# Altium footprint library Connector.PcbLib: 170 footprints (part 1 of 11)
Each footprint in its own frame and in the unit in brackets; x right, y up, seen from the top. Pads: shape width x height; smd on the part's side, far side on the other; paste and mask are expansions set on the pad; w line width, h text height; cw(c..) or ccw(c..) is an arc to the next point about the centre after c.
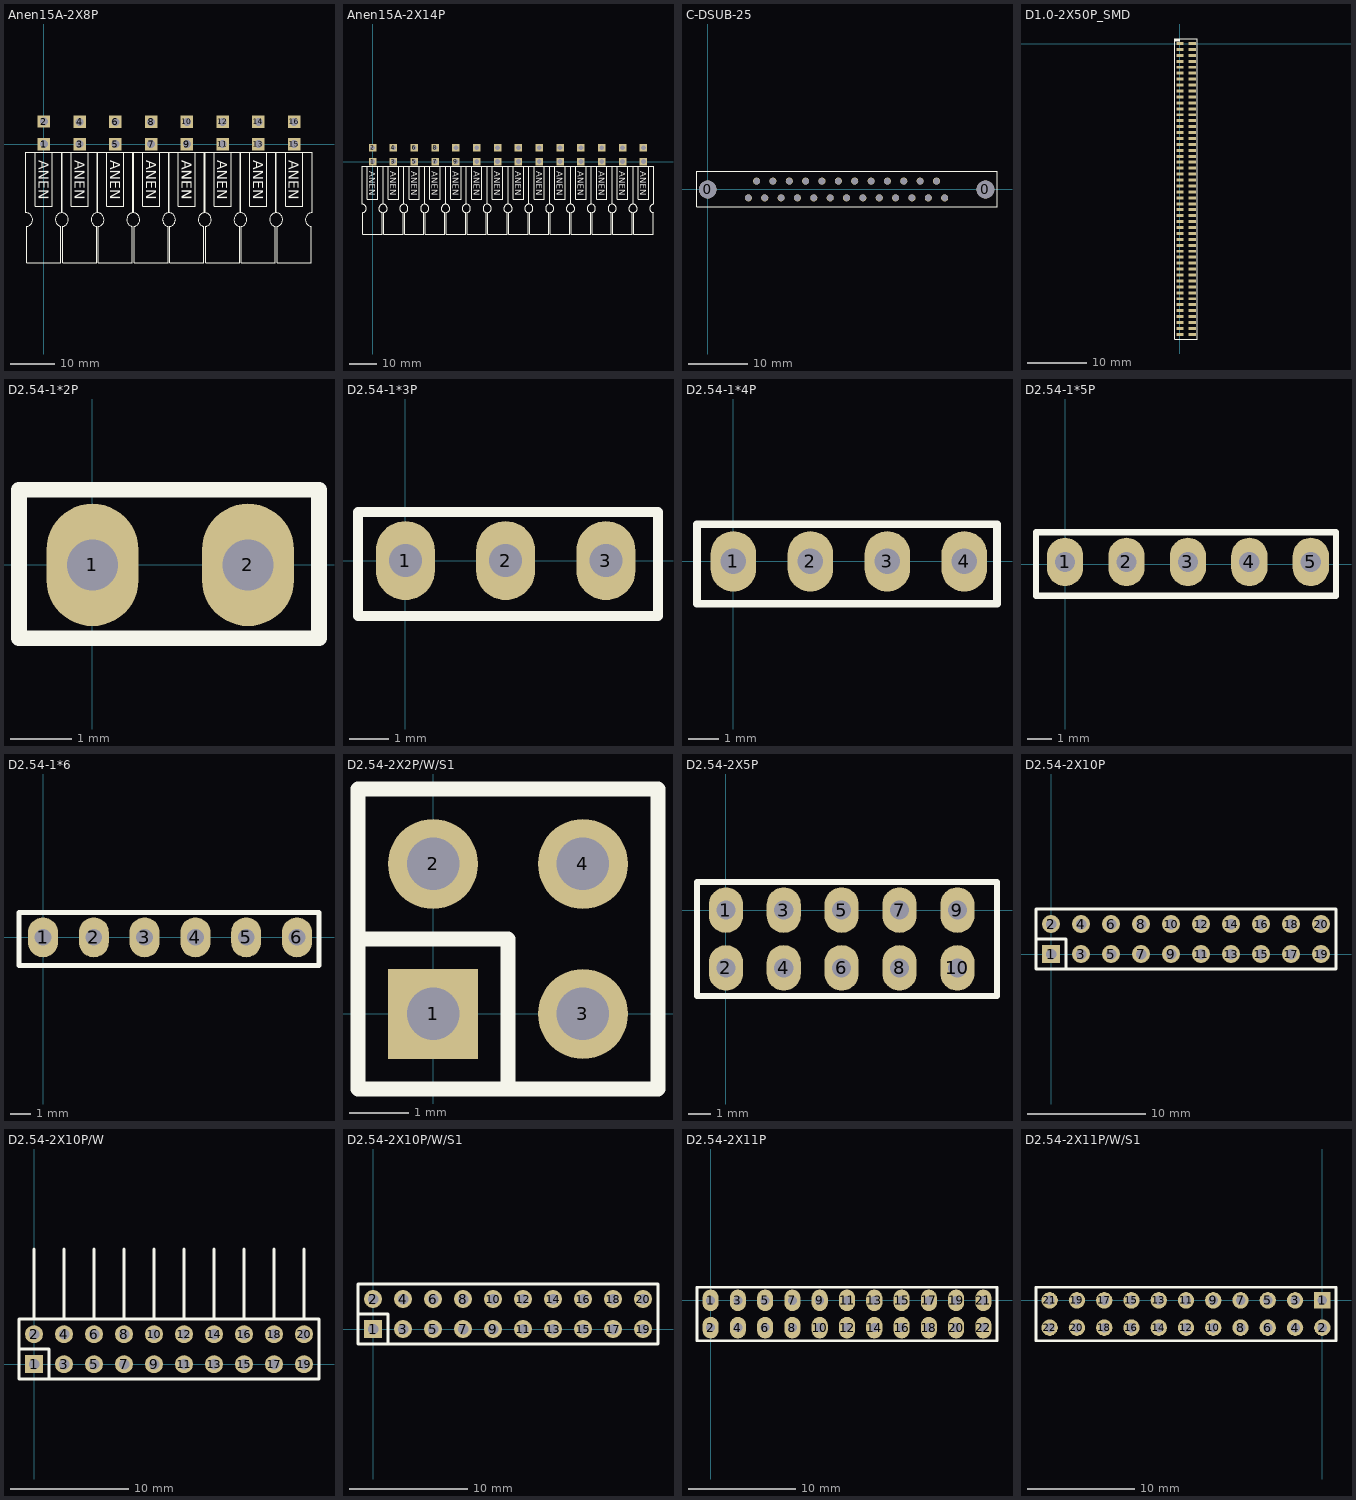
[diagram p0: the footprints below, top view; thin cyan lines are the x and y axes]

## Anen15A-2X8P [mil] "单极电源连接器"
pads (16):
  rect 110x110 hole 70 paste+0: 1(0,0) 2(0,200) 3(314.96,0) 4(314.96,196.85) 5(629.92,0) 6(629.92,196.85) 7(944.88,0) 8(944.88,196.85) 9(1259.84,0) 10(1259.84,196.85) 11(1574.8,0) 12(1574.8,196.85) 13(1889.76,0) 14(1889.76,196.85) 15(2204.72,0) 16(2204.72,196.85)
Top Overlay:
  lines w10: -150,-724.09 -150,-1045 149.58,-1045 149.58,-724.09 cw(c160,-665) 160,-605 160,-70 -160,-70 -160,-605 cw(c-160,-665) -149.58,-724.09 ; -75,-70 -75,-545 75,-545 75,-70 ; 164.96,-724.09 164.96,-1045 464.54,-1045 464.54,-724.09 cw(c474.96,-665) 474.96,-605 474.96,-70 154.96,-70 154.96,-605 cw(c154.96,-665) 165.38,-724.09 ; 239.96,-70 239.96,-545 389.96,-545 389.96,-70 ; 479.92,-724.09 479.92,-1045 779.5,-1045 779.5,-724.09 cw(c789.92,-665) 789.92,-605 789.92,-70 469.92,-70 469.92,-605 cw(c469.92,-665) 480.34,-724.09 ; 554.92,-70 554.92,-545 704.92,-545 704.92,-70 ; 794.88,-724.09 794.88,-1045 1094.46,-1045 1094.46,-724.09 cw(c1104.88,-665) 1104.88,-605 1104.88,-70 784.88,-70 784.88,-605 cw(c784.88,-665) 795.3,-724.09 ; 869.88,-70 869.88,-545 1019.88,-545 1019.88,-70 ; 1424.8,-724.09 1424.8,-1045 1724.38,-1045 1724.38,-724.09 cw(c1734.8,-665) 1734.8,-605 1734.8,-70 1414.8,-70 1414.8,-605 cw(c1414.8,-665) 1425.22,-724.09 ; 1499.8,-70 1499.8,-545 1649.8,-545 1649.8,-70 ; 1739.76,-724.09 1739.76,-1045 2039.34,-1045 2039.34,-724.09 cw(c2049.76,-665) 2049.76,-605 2049.76,-70 1729.76,-70 1729.76,-605 cw(c1729.76,-665) 1740.18,-724.09 ; 1814.76,-70 1814.76,-545 1964.76,-545 1964.76,-70 ; 2054.72,-724.09 2054.72,-1045 2354.31,-1045 2354.31,-724.09 cw(c2364.72,-665) 2364.72,-605 2364.72,-70 2044.72,-70 2044.72,-605 cw(c2044.72,-665) 2055.14,-724.09 ; 2129.72,-70 2129.72,-545 2279.72,-545 2279.72,-70 ; 1099.84,-605 cw(c1099.84,-665) 1110.26,-724.09 ccw(c1099.84,-665) 1099.84,-605 ; 1099.84,-605 1099.84,-70 ; 1099.84,-605 1099.84,-70 ; 1099.84,-70 1419.84,-70 ; 1099.84,-70 1419.84,-70 ; 1109.84,-1045 1409.42,-1045 ; 1109.84,-1045 1109.84,-724.09 1109.84,-1045 ; 1109.84,-1045 1409.42,-1045 ; 1184.84,-545 1334.84,-545 ; 1184.84,-545 1184.84,-70 1184.84,-545 ; 1184.84,-545 1334.84,-545 ; 1334.84,-545 1334.84,-70 1334.84,-545 ; 1409.42,-1045 1409.42,-724.09 ; 1409.42,-1045 1409.42,-724.09 ; 1409.42,-724.09 cw(c1419.84,-665) 1419.84,-605 ; 1409.42,-724.09 cw(c1419.84,-665) 1419.84,-605 ; 1419.84,-605 1419.84,-70 ; 1419.84,-605 1419.84,-70
  text "ANEN" at -45,-140 h90
  text "ANEN" at 269.96,-140 h90
  text "ANEN" at 584.92,-140 h90
  text "ANEN" at 899.88,-140 h90
  text "ANEN" at 1214.84,-140 h90
  text "ANEN" at 1214.84,-140 h90
  text "ANEN" at 1529.8,-140 h90
  text "ANEN" at 1844.76,-140 h90
  text "ANEN" at 2159.72,-140 h90
3D body: height 669.29, standoff 0, extent -160,-1040 155,-70
3D body: height 669.29, standoff 0, extent 154.96,-1040 469.96,-70
3D body: height 669.29, standoff 0, extent 469.92,-1040 784.92,-70
3D body: height 669.29, standoff 0, extent 784.88,-1040 1099.88,-70
3D body: height 669.29, standoff 0, extent 1099.84,-1040 1414.84,-70
3D body: height 669.29, standoff 0, extent 1414.8,-1040 1729.8,-70
3D body: height 669.29, standoff 0, extent 1729.76,-1040 2044.76,-70
3D body: height 669.29, standoff 0, extent 2044.72,-1040 2359.72,-70

## Anen15A-2X14P [mil] "单极电源连接器"
pads (28):
  rect 110x110 hole 70: 1(0,0) 2(0,200) 3(300,0) 4(300,200) 5(600,0) 6(600,200) 7(900,0) 8(900,200) 9(1200,0) 10(1200,200) 11(1500,0) 12(1500,200) 13(1800,0) 14(1800,200) 15(2100,0) 16(2100,200) 17(2400,0) 18(2400,200) 19(2700,0) 20(2700,200) 21(3000,0) 22(3000,200) 23(3300,0) 24(3300,200) 25(3600,0) 26(3600,200) 27(3900,0) 28(3900,200)
Top Overlay:
  drawing of 180 lines, arcs and shapes, not listed
  text "ANEN" at -45,-140 h90
  text "ANEN" at 255,-140 h90
  text "ANEN" at 555,-140 h90
  text "ANEN" at 855,-140 h90
  text "ANEN" at 2055,-140 h90
  text "ANEN" at 1755,-140 h90
  text "ANEN" at 1455,-140 h90
  text "ANEN" at 1155,-140 h90
  text "ANEN" at 3255,-140 h90
  text "ANEN" at 2955,-140 h90
  text "ANEN" at 2655,-140 h90
  text "ANEN" at 2355,-140 h90
  text "ANEN" at 3855,-140 h90
  text "ANEN" at 3555,-140 h90
3D body: height 669.29, standoff 0, extent 3740,-1040 4055,-70
3D body: height 669.29, standoff 0, extent 3440,-1040 3755,-70
3D body: height 669.29, standoff 0, extent 3140,-1040 3455,-70
3D body: height 669.29, standoff 0, extent 2840,-1040 3155,-70
3D body: height 669.29, standoff 0, extent 2540,-1040 2855,-70
3D body: height 669.29, standoff 0, extent 2240,-1040 2555,-70
3D body: height 669.29, standoff 0, extent 1940,-1040 2255,-70
3D body: height 669.29, standoff 0, extent 1640,-1040 1955,-70
3D body: height 669.29, standoff 0, extent 1340,-1040 1655,-70
3D body: height 669.29, standoff 0, extent 1040,-1040 1355,-70
3D body: height 669.29, standoff 0, extent 740,-1040 1055,-70
3D body: height 669.29, standoff 0, extent 440,-1040 755,-70
3D body: height 669.29, standoff 0, extent 140,-1040 455,-70
3D body: height 669.29, standoff 0, extent -160,-1040 155,-70

## C-DSUB-25 [mm] "C-DSUB-25"
pads (27):
  round 3 hole 3: 0(0,0) 0(47.04,0)
  round 1.2 hole 1.1: 1(6.9,-1.42) 2(9.67,-1.42) 3(12.44,-1.42) 4(15.21,-1.42) 5(17.98,-1.42) 6(20.75,-1.42) 7(23.52,-1.42) 8(26.29,-1.42) 9(29.06,-1.42) 10(31.83,-1.42) 11(34.6,-1.42) 12(37.37,-1.42) 13(40.14,-1.42) 14(8.285,1.42) 15(11.055,1.42) 16(13.825,1.42) 17(16.595,1.42) 18(19.365,1.42) 19(22.135,1.42) 20(24.905,1.42) 21(27.675,1.42) 22(30.445,1.42) 23(33.215,1.42) 24(35.985,1.42) 25(38.755,1.42)
Top Overlay:
  lines w0.2: -1.8,-2.92 49,-2.92 49,3.08 -1.8,3.08 -1.8,-2.92

## D1.0-2X50P_SMD [mm]
pads (100):
  rect 1.25x0.5 smd: 1(0,0) 2(2.05,0) 3(0,-1) 4(2.05,-1) 5(0,-2) 6(2.05,-2) 7(0,-3) 8(2.05,-3) 9(0,-4) 10(2.05,-4) 11(0,-5) 12(2.05,-5) 13(0,-6) 14(2.05,-6) 15(0,-7) 16(2.05,-7) 17(0,-8) 18(2.05,-8) 19(0,-9) 20(2.05,-9) 21(0,-10) 22(2.05,-10) 23(0,-11) 24(2.05,-11) 25(0,-12) 26(2.05,-12) 27(0,-13) 28(2.05,-13) 29(0,-14) 30(2.05,-14) 31(0,-15) 32(2.05,-15) 33(0,-16) 34(2.05,-16) 35(0,-17) 36(2.05,-17) 37(0,-18) 38(2.05,-18) 39(0,-19) 40(2.05,-19) 41(0,-20) 42(2.05,-20) 43(0,-21) 44(2.05,-21) 45(0,-22) 46(2.05,-22) 47(0,-23) 48(2.05,-23) 49(0,-24) 50(2.05,-24) 51(0,-25) 52(2.05,-25) 53(0,-26) 54(2.05,-26) 55(0,-27) 56(2.05,-27) 57(0,-28) 58(2.05,-28) 59(0,-29) 60(2.05,-29) 61(0,-30) 62(2.05,-30) 63(0,-31) 64(2.05,-31) 65(0,-32) 66(2.05,-32) 67(0,-33) 68(2.05,-33) 69(0,-34) 70(2.05,-34) 71(0,-35) 72(2.05,-35) 73(0,-36) 74(2.05,-36) 75(0,-37) 76(2.05,-37) 77(0,-38) 78(2.05,-38) 79(0,-39) 80(2.05,-39) 81(0,-40) 82(2.05,-40) 83(0,-41) 84(2.05,-41) 85(0,-42) 86(2.05,-42) 87(0,-43) 88(2.05,-43) 89(0,-44) 90(2.05,-44) 91(0,-45) 92(2.05,-45) 93(0,-46) 94(2.05,-46) 95(0,-47) 96(2.05,-47) 97(0,-48) 98(2.05,-48) 99(0,-49) 100(2.05,-49)
Top Overlay:
  rectangle: -0.889,0.381 0,0.762
  lines w0.203: -0.889,-49.784 -0.889,0.762 2.921,0.762 2.921,-49.784 -0.889,-49.784

## D2.54-1*2P [mm]
pads (2):
  oval 1.5x2 hole 0.838: 1(0,0) 2(2.54,0)
Top Overlay:
  lines w0.254: -1.2,-1.2 -1.2,1.23 3.7,1.23 3.7,0.573 3.7,-0.743 3.7,-1.2 -1.2,-1.2
3D body: height 2.54, standoff 0, extent -1.1,-1.3 3.6,1.24
3D body: height 10, standoff -4, extent 2.142,-0.399 2.939,0.399
3D body: height 10, standoff -4, extent -0.398,-0.399 0.399,0.399

## D2.54-1*3P [mm]
pads (3):
  oval 1.5x2 hole 0.838: 1(0,0) 2(2.54,0) 3(5.08,0)
Top Overlay:
  lines w0.254: -1.2,-1.4 -1.2,1.23 6.4,1.23 6.4,-1.4 -1.2,-1.4
3D body: height 2.54, standoff 0, extent -1.1,-1.376 6.3,1.23
3D body: height 10, standoff -4, extent 4.682,-0.399 5.479,0.399
3D body: height 10, standoff -4, extent 2.142,-0.399 2.939,0.399
3D body: height 10, standoff -4, extent -0.398,-0.399 0.399,0.399

## D2.54-1*4P [mm] "Bluetooth"
pads (4):
  oval 1.5x2 hole 0.838: 1(0,0) 2(2.54,0) 3(5.08,0) 4(7.62,0)
Top Overlay:
  lines w0.254: -1.2,-1.4 8.7,-1.4 8.7,1.23 -1.2,1.23 -1.2,-1.4
3D body: height 10, standoff -4, extent -0.398,-0.399 0.399,0.399
3D body: height 10, standoff -4, extent 2.142,-0.399 2.939,0.399
3D body: height 10, standoff -4, extent 4.682,-0.399 5.479,0.399
3D body: height 10, standoff -4, extent 7.222,-0.399 8.019,0.399
3D body: height 2.54, standoff 0, extent -1.1,-1.4 8.7,1.23

## D2.54-1*5P [mm] "D2.54-1*5P"
pads (5):
  oval 1.5x2 hole 0.838: 1(0,0.1) 2(2.54,0.1) 3(5.08,0.1) 4(7.62,0.1) 5(10.16,0.1)
Top Overlay:
  lines w0.254: -1.2,-1.3 11.2,-1.3 11.2,1.33 -1.2,1.33 -1.2,-1.3
3D body: height 10, standoff -4, extent -0.398,-0.299 0.399,0.499
3D body: height 10, standoff -4, extent 2.142,-0.299 2.939,0.499
3D body: height 10, standoff -4, extent 4.682,-0.299 5.479,0.499
3D body: height 10, standoff -4, extent 7.222,-0.299 8.019,0.499
3D body: height 2.54, standoff 0, extent -1.1,-1.326 11.2,1.33
3D body: height 10, standoff -4, extent 7.222,-0.299 8.019,0.499
3D body: height 10, standoff -4, extent 9.762,-0.299 10.559,0.499

## D2.54-1*6 [mm]
pads (6):
  oval 1.5x2 hole 0.838: 1(0,0) 2(2.54,0) 3(5.08,0) 4(7.62,0) 5(10.16,0) 6(12.7,0)
Top Overlay:
  lines w0.254: -1.2,-1.4 13.8,-1.4 13.8,1.23 -1.2,1.23 -1.2,-1.4
3D body: height 10, standoff -4, extent -0.398,-0.399 0.399,0.399
3D body: height 10, standoff -4, extent 2.142,-0.399 2.939,0.399
3D body: height 10, standoff -4, extent 4.682,-0.399 5.479,0.399
3D body: height 10, standoff -4, extent 7.222,-0.399 8.019,0.399
3D body: height 2.54, standoff 0, extent -1.1,-1.452 13.8,1.23
3D body: height 10, standoff -4, extent 7.222,-0.399 8.019,0.399
3D body: height 10, standoff -4, extent 9.762,-0.399 10.559,0.399
3D body: height 10, standoff -4, extent 9.762,-0.399 10.559,0.399
3D body: height 10, standoff -4, extent 12.302,-0.399 13.099,0.399

## D2.54-2X2P/W/S1 [mil]
pads (4):
  rect 60x60 hole 35: 1(0,0)
  round 60 hole 35: 2(0,100) 3(100,0) 4(100,100)
Top Overlay:
  lines w10: -50,50 50,50 50,-50 ; -50,-50 -50,150 150,150 150,-50 -50,-50
3D body: height 258.27, standoff -78.74, extent -16,-16 15.37,15.43
3D body: height 100, standoff 0, extent -50,-50 150,150
3D body: height 273.89, standoff 242.52, extent -16,-0.28 15.43,378.85
3D body: height 273.89, standoff 242.52, extent 84,-0.28 115.43,378.85
3D body: height 258.27, standoff -78.74, extent 84,-16 115.37,15.43
3D body: height 158.27, standoff -78.74, extent -16,84 15.37,115.43
3D body: height 173.89, standoff 142.52, extent -15.72,100 15.72,387.01
3D body: height 173.89, standoff 142.52, extent 84.28,100 115.72,387.01
3D body: height 158.27, standoff -78.74, extent 84,84 115.37,115.43

## D2.54-2X5P [mm] "DUAL_ROW_Pin_R2.54-5P"
pads (10):
  oval 1.5x2 hole 0.838: 1(0,0) 2(0,-2.54) 3(2.54,0) 4(2.54,-2.54) 5(5.08,0) 6(5.08,-2.54) 7(7.62,0) 8(7.62,-2.54) 9(10.16,0) 10(10.16,-2.54)
Top Overlay:
  lines w0.254: -1.27,-3.77 11.9,-3.77 11.9,1.23 -1.27,1.23 -1.27,-3.77
3D body: height 10, standoff -4, extent 9.762,-0.399 10.559,0.399
3D body: height 10, standoff -4, extent 9.762,-2.939 10.559,-2.141
3D body: height 10, standoff -4, extent -0.398,-0.399 0.399,0.399
3D body: height 10, standoff -4, extent 2.142,-0.399 2.939,0.399
3D body: height 10, standoff -4, extent 4.682,-0.399 5.479,0.399
3D body: height 10, standoff -4, extent 7.222,-0.399 8.019,0.399
3D body: height 10, standoff -4, extent -0.398,-2.939 0.399,-2.141
3D body: height 10, standoff -4, extent 2.142,-2.939 2.939,-2.141
3D body: height 10, standoff -4, extent 4.682,-2.939 5.479,-2.141
3D body: height 10, standoff -4, extent 7.222,-2.939 8.019,-2.141
3D body: height 2.54, standoff 0, extent -1.27,-3.817 11.6,1.263

## D2.54-2X10P [mil] "SIP2.54-2x10P直插排针"
pads (20):
  rect 60x60 hole 35: 1(0,0)
  round 60 hole 35: 2(0,100) 3(100,0) 4(100,100) 5(200,0) 6(200,100) 7(300,0) 8(300,100) 9(400,0) 10(400,100) 11(500,0) 12(500,100) 13(600,0) 14(600,100) 15(700,0) 16(700,100) 17(800,0) 18(800,100) 19(900,0) 20(900,100)
Top Overlay:
  lines w10: -50,50 50,50 50,-50 ; -50,-50 950,-50 950,150 -50,150 -50,-50
3D body: height 314.96, standoff -78.74, extent 884,-16 915.37,15.43
3D body: height 314.96, standoff -78.74, extent 784,-16 815.37,15.43
3D body: height 314.96, standoff -78.74, extent 684,-16 715.37,15.43
3D body: height 314.96, standoff -78.74, extent 584,-16 615.37,15.43
3D body: height 314.96, standoff -78.74, extent 484,-16 515.37,15.43
3D body: height 314.96, standoff -78.74, extent 884,84 915.37,115.43
3D body: height 314.96, standoff -78.74, extent 784,84 815.37,115.43
3D body: height 314.96, standoff -78.74, extent 684,84 715.37,115.43
3D body: height 314.96, standoff -78.74, extent 584,84 615.37,115.43
3D body: height 314.96, standoff -78.74, extent 484,84 515.37,115.43
3D body: height 314.96, standoff -78.74, extent 384,84 415.37,115.43
3D body: height 314.96, standoff -78.74, extent 284,84 315.37,115.43
3D body: height 314.96, standoff -78.74, extent 184,84 215.37,115.43
3D body: height 314.96, standoff -78.74, extent 84,84 115.37,115.43
3D body: height 314.96, standoff -78.74, extent -16,84 15.37,115.43
3D body: height 100, standoff 0, extent -50,-50 950,150
3D body: height 314.96, standoff -78.74, extent -16,-16 15.37,15.43
3D body: height 314.96, standoff -78.74, extent 84,-16 115.37,15.43
3D body: height 314.96, standoff -78.74, extent 184,-16 215.37,15.43
3D body: height 314.96, standoff -78.74, extent 284,-16 315.37,15.43
3D body: height 314.96, standoff -78.74, extent 384,-16 415.37,15.43

## D2.54-2X10P/W [mil] "SIP2.54-2x10P弯插排针"
pads (20):
  rect 60x60 hole 35: 1(0,0)
  round 60 hole 35: 2(0,100) 3(100,0) 4(100,100) 5(200,0) 6(200,100) 7(300,0) 8(300,100) 9(400,0) 10(400,100) 11(500,0) 12(500,100) 13(600,0) 14(600,100) 15(700,0) 16(700,100) 17(800,0) 18(800,100) 19(900,0) 20(900,100)
Top Overlay:
  lines w10: -50,50 50,50 50,-50 ; 0,150 0,384.65 ; 100,150 100,384.65 ; 200,150 200,384.65 ; 300,150 300,384.65 ; 400,150 400,384.65 ; 500,150 500,384.65 ; 600,150 600,384.65 ; 700,150 700,384.65 ; 800,150 800,384.65 ; 900,150 900,384.65 ; -50,-50 -50,150 950,150 950,-50 -50,-50
3D body: height 258.27, standoff -78.74, extent -16,-16 15.37,15.43
3D body: height 100, standoff 0, extent -50,-50 950,150
3D body: height 273.89, standoff 242.52, extent -16,-0.28 15.43,378.85
3D body: height 273.89, standoff 242.52, extent 84,-0.28 115.43,378.85
3D body: height 258.27, standoff -78.74, extent 84,-16 115.37,15.43
3D body: height 273.89, standoff 242.52, extent 184,-0.28 215.43,378.85
3D body: height 258.27, standoff -78.74, extent 184,-16 215.37,15.43
3D body: height 273.89, standoff 242.52, extent 284,-0.28 315.43,378.85
3D body: height 258.27, standoff -78.74, extent 284,-16 315.37,15.43
3D body: height 273.89, standoff 242.52, extent 384,-0.28 415.43,378.85
3D body: height 258.27, standoff -78.74, extent 384,-16 415.37,15.43
3D body: height 273.89, standoff 242.52, extent 484,-0.28 515.43,378.85
3D body: height 258.27, standoff -78.74, extent 484,-16 515.37,15.43
3D body: height 273.89, standoff 242.52, extent 584,-0.28 615.43,378.85
3D body: height 258.27, standoff -78.74, extent 584,-16 615.37,15.43
3D body: height 273.89, standoff 242.52, extent 684,-0.28 715.43,378.85
3D body: height 258.27, standoff -78.74, extent 684,-16 715.37,15.43
3D body: height 273.89, standoff 242.52, extent 784,-0.28 815.43,378.85
3D body: height 258.27, standoff -78.74, extent 784,-16 815.37,15.43
3D body: height 273.89, standoff 242.52, extent 884,-0.28 915.43,378.85
3D body: height 258.27, standoff -78.74, extent 884,-16 915.37,15.43
3D body: height 158.27, standoff -78.74, extent -16,84 15.37,115.43
3D body: height 173.89, standoff 142.52, extent -15.72,100 15.72,387.01
3D body: height 173.89, standoff 142.52, extent 84.28,100 115.72,387.01
3D body: height 158.27, standoff -78.74, extent 84,84 115.37,115.43
3D body: height 173.89, standoff 142.52, extent 184.28,100 215.72,387.01
3D body: height 158.27, standoff -78.74, extent 184,84 215.37,115.43
3D body: height 173.89, standoff 142.52, extent 284.28,100 315.72,387.01
3D body: height 158.27, standoff -78.74, extent 284,84 315.37,115.43
3D body: height 173.89, standoff 142.52, extent 384.28,100 415.72,387.01
3D body: height 158.27, standoff -78.74, extent 384,84 415.37,115.43
3D body: height 173.89, standoff 142.52, extent 484.28,100 515.72,387.01
3D body: height 158.27, standoff -78.74, extent 484,84 515.37,115.43
3D body: height 173.89, standoff 142.52, extent 584.28,100 615.72,387.01
3D body: height 158.27, standoff -78.74, extent 584,84 615.37,115.43
3D body: height 173.89, standoff 142.52, extent 684.28,100 715.72,387.01
3D body: height 158.27, standoff -78.74, extent 684,84 715.37,115.43
3D body: height 173.89, standoff 142.52, extent 784.28,100 815.72,387.01
3D body: height 158.27, standoff -78.74, extent 784,84 815.37,115.43
3D body: height 173.89, standoff 142.52, extent 884.28,100 915.72,387.01
3D body: height 158.27, standoff -78.74, extent 884,84 915.37,115.43

## D2.54-2X10P/W/S1 [mil]
pads (20):
  rect 60x60 hole 35: 1(0,0)
  round 60 hole 35: 2(0,100) 3(100,0) 4(100,100) 5(200,0) 6(200,100) 7(300,0) 8(300,100) 9(400,0) 10(400,100) 11(500,0) 12(500,100) 13(600,0) 14(600,100) 15(700,0) 16(700,100) 17(800,0) 18(800,100) 19(900,0) 20(900,100)
Top Overlay:
  lines w10: -50,50 50,50 50,-50 ; -50,-50 950,-50 950,150 -50,150 -50,-50
3D body: height 158.27, standoff -78.74, extent 684,84 715.37,115.43
3D body: height 173.89, standoff 142.52, extent 684.28,100 715.72,387.01
3D body: height 158.27, standoff -78.74, extent 584,84 615.37,115.43
3D body: height 173.89, standoff 142.52, extent 584.28,100 615.72,387.01
3D body: height 158.27, standoff -78.74, extent 484,84 515.37,115.43
3D body: height 173.89, standoff 142.52, extent 484.28,100 515.72,387.01
3D body: height 158.27, standoff -78.74, extent 384,84 415.37,115.43
3D body: height 173.89, standoff 142.52, extent 384.28,100 415.72,387.01
3D body: height 158.27, standoff -78.74, extent 284,84 315.37,115.43
3D body: height 173.89, standoff 142.52, extent 284.28,100 315.72,387.01
3D body: height 158.27, standoff -78.74, extent 184,84 215.37,115.43
3D body: height 173.89, standoff 142.52, extent 184.28,100 215.72,387.01
3D body: height 158.27, standoff -78.74, extent 84,84 115.37,115.43
3D body: height 173.89, standoff 142.52, extent 84.28,100 115.72,387.01
3D body: height 173.89, standoff 142.52, extent -15.72,100 15.72,387.01
3D body: height 158.27, standoff -78.74, extent -16,84 15.37,115.43
3D body: height 258.27, standoff -78.74, extent 684,-16 715.37,15.43
3D body: height 273.89, standoff 242.52, extent 684,-0.28 715.43,378.85
3D body: height 258.27, standoff -78.74, extent 584,-16 615.37,15.43
3D body: height 273.89, standoff 242.52, extent 584,-0.28 615.43,378.85
3D body: height 258.27, standoff -78.74, extent 484,-16 515.37,15.43
3D body: height 273.89, standoff 242.52, extent 484,-0.28 515.43,378.85
3D body: height 258.27, standoff -78.74, extent 384,-16 415.37,15.43
3D body: height 273.89, standoff 242.52, extent 384,-0.28 415.43,378.85
3D body: height 258.27, standoff -78.74, extent 284,-16 315.37,15.43
3D body: height 273.89, standoff 242.52, extent 284,-0.28 315.43,378.85
3D body: height 258.27, standoff -78.74, extent 184,-16 215.37,15.43
3D body: height 273.89, standoff 242.52, extent 184,-0.28 215.43,378.85
3D body: height 258.27, standoff -78.74, extent 84,-16 115.37,15.43
3D body: height 273.89, standoff 242.52, extent 84,-0.28 115.43,378.85
3D body: height 273.89, standoff 242.52, extent -16,-0.28 15.43,378.85
3D body: height 100, standoff 0, extent -50,-50 950,150
3D body: height 258.27, standoff -78.74, extent -16,-16 15.37,15.43
3D body: height 273.89, standoff 242.52, extent 784,-0.28 815.43,378.85
3D body: height 258.27, standoff -78.74, extent 784,-16 815.37,15.43
3D body: height 273.89, standoff 242.52, extent 884,-0.28 915.43,378.85
3D body: height 258.27, standoff -78.74, extent 884,-16 915.37,15.43
3D body: height 173.89, standoff 142.52, extent 784.28,100 815.72,387.01
3D body: height 158.27, standoff -78.74, extent 784,84 815.37,115.43
3D body: height 173.89, standoff 142.52, extent 884.28,100 915.72,387.01
3D body: height 158.27, standoff -78.74, extent 884,84 915.37,115.43

## D2.54-2X11P [mm] "DUAL_ROW_Pin_R2.54-11P"
pads (22):
  oval 1.5x2 hole 0.838: 1(0,0) 2(0,-2.54) 3(2.54,0) 4(2.54,-2.54) 5(5.08,0) 6(5.08,-2.54) 7(7.62,0) 8(7.62,-2.54) 9(10.16,0) 10(10.16,-2.54) 11(12.7,0) 12(12.7,-2.54) 13(15.24,0) 14(15.24,-2.54) 15(17.78,0) 16(17.78,-2.54) 17(20.32,0) 18(20.32,-2.54) 19(22.86,0) 20(22.86,-2.54) 21(25.4,0) 22(25.4,-2.54)
Top Overlay:
  lines w0.254: -1.27,-3.77 26.67,-3.77 26.67,1.23 -1.27,1.23 -1.27,-3.77
3D body: height 10, standoff -4, extent -0.398,-0.399 0.399,0.399
3D body: height 10, standoff -4, extent 2.142,-0.399 2.939,0.399
3D body: height 10, standoff -4, extent 4.682,-0.399 5.479,0.399
3D body: height 10, standoff -4, extent 7.222,-0.399 8.019,0.399
3D body: height 10, standoff -4, extent 9.762,-0.399 10.559,0.399
3D body: height 10, standoff -4, extent 12.302,-0.399 13.099,0.399
3D body: height 10, standoff -4, extent 14.842,-0.399 15.639,0.399
3D body: height 10, standoff -4, extent 17.382,-0.399 18.179,0.399
3D body: height 10, standoff -4, extent 19.922,-0.399 20.719,0.399
3D body: height 10, standoff -4, extent 22.462,-0.399 23.259,0.399
3D body: height 10, standoff -4, extent 25.002,-0.399 25.799,0.399
3D body: height 10, standoff -4, extent -0.398,-2.939 0.399,-2.141
3D body: height 10, standoff -4, extent 2.142,-2.939 2.939,-2.141
3D body: height 10, standoff -4, extent 4.682,-2.939 5.479,-2.141
3D body: height 10, standoff -4, extent 7.222,-2.939 8.019,-2.141
3D body: height 10, standoff -4, extent 9.762,-2.939 10.559,-2.141
3D body: height 10, standoff -4, extent 12.302,-2.939 13.099,-2.141
3D body: height 10, standoff -4, extent 14.842,-2.939 15.639,-2.141
3D body: height 10, standoff -4, extent 17.382,-2.939 18.179,-2.141
3D body: height 10, standoff -4, extent 19.922,-2.939 20.719,-2.141
3D body: height 10, standoff -4, extent 22.462,-2.939 23.259,-2.141
3D body: height 2.54, standoff 0, extent -1.27,-3.817 26.663,1.263
3D body: height 10, standoff -4, extent 25.002,-2.939 25.799,-2.141

## D2.54-2X11P/W/S1 [mil] "DUAL_ROW_Pin_R2.54-11P"
pads (22):
  rect 60x60 hole 35: 1(0,0)
  round 60 hole 35: 2(0,-100) 3(-100,0) 4(-100,-100) 5(-200,0) 6(-200,-100) 7(-300,0) 8(-300,-100) 9(-400,0) 10(-400,-100) 11(-500,0) 12(-500,-100) 13(-600,0) 14(-600,-100) 15(-700,0) 16(-700,-100) 17(-800,0) 18(-800,-100) 19(-900,0) 20(-900,-100) 21(-1000,0) 22(-1000,-100)
Top Overlay:
  lines w10: -1050,-148.43 50,-148.43 50,48.43 -1050,48.43 -1050,-148.43
3D body: height 258.27, standoff -78.74, extent -15.65,-15.72 15.72,15.72
3D body: height 100, standoff 0, extent -1050,-150.28 49.72,49.72
3D body: height 273.89, standoff 242.52, extent -15.72,-379.13 15.72,0
3D body: height 273.89, standoff 242.52, extent -115.72,-379.13 -84.28,0
3D body: height 258.27, standoff -78.74, extent -115.65,-15.72 -84.28,15.72
3D body: height 273.89, standoff 242.52, extent -215.72,-379.13 -184.28,0
3D body: height 258.27, standoff -78.74, extent -215.65,-15.72 -184.28,15.72
3D body: height 273.89, standoff 242.52, extent -315.72,-379.13 -284.28,0
3D body: height 258.27, standoff -78.74, extent -315.65,-15.72 -284.28,15.72
3D body: height 273.89, standoff 242.52, extent -415.72,-379.13 -384.28,0
3D body: height 258.27, standoff -78.74, extent -415.65,-15.72 -384.28,15.72
3D body: height 273.89, standoff 242.52, extent -515.72,-379.13 -484.28,0
3D body: height 258.27, standoff -78.74, extent -515.65,-15.72 -484.28,15.72
3D body: height 273.89, standoff 242.52, extent -615.72,-379.13 -584.28,0
3D body: height 258.27, standoff -78.74, extent -615.65,-15.72 -584.28,15.72
3D body: height 273.89, standoff 242.52, extent -715.72,-379.13 -684.28,0
3D body: height 258.27, standoff -78.74, extent -715.65,-15.72 -684.28,15.72
3D body: height 273.89, standoff 242.52, extent -815.72,-379.13 -784.28,0
3D body: height 258.27, standoff -78.74, extent -815.65,-15.72 -784.28,15.72
3D body: height 273.89, standoff 242.52, extent -915.72,-379.13 -884.28,0
3D body: height 258.27, standoff -78.74, extent -915.65,-15.72 -884.28,15.72
3D body: height 158.27, standoff -78.74, extent -15.65,-115.72 15.72,-84.28
3D body: height 173.89, standoff 142.52, extent -16,-387.29 15.43,-100.28
3D body: height 173.89, standoff 142.52, extent -116,-387.29 -84.57,-100.28
3D body: height 158.27, standoff -78.74, extent -115.65,-115.72 -84.28,-84.28
3D body: height 173.89, standoff 142.52, extent -216,-387.29 -184.57,-100.28
3D body: height 158.27, standoff -78.74, extent -215.65,-115.72 -184.28,-84.28
3D body: height 173.89, standoff 142.52, extent -316,-387.29 -284.57,-100.28
3D body: height 158.27, standoff -78.74, extent -315.65,-115.72 -284.28,-84.28
3D body: height 173.89, standoff 142.52, extent -416,-387.29 -384.57,-100.28
3D body: height 158.27, standoff -78.74, extent -415.65,-115.72 -384.28,-84.28
3D body: height 173.89, standoff 142.52, extent -516,-387.29 -484.57,-100.28
3D body: height 158.27, standoff -78.74, extent -515.65,-115.72 -484.28,-84.28
3D body: height 173.89, standoff 142.52, extent -616,-387.29 -584.57,-100.28
3D body: height 158.27, standoff -78.74, extent -615.65,-115.72 -584.28,-84.28
3D body: height 173.89, standoff 142.52, extent -716,-387.29 -684.57,-100.28
3D body: height 158.27, standoff -78.74, extent -715.65,-115.72 -684.28,-84.28
3D body: height 173.89, standoff 142.52, extent -816,-387.29 -784.57,-100.28
3D body: height 158.27, standoff -78.74, extent -815.65,-115.72 -784.28,-84.28
3D body: height 173.89, standoff 142.52, extent -916,-387.29 -884.57,-100.28
3D body: height 158.27, standoff -78.74, extent -915.65,-115.72 -884.28,-84.28
3D body: height 158.27, standoff -78.74, extent -1015.65,-115.72 -984.28,-84.28
3D body: height 173.89, standoff 142.52, extent -1016,-387.29 -984.57,-100.28
3D body: height 258.27, standoff -78.74, extent -1015.65,-15.72 -984.28,15.72
3D body: height 273.89, standoff 242.52, extent -1015.72,-379.13 -984.28,0